# EAGLE library part BLUETOOTH (library amplib)
datasheet <https://www.mouser.se/datasheet/2/986/Datasheet_-_BT800_Module-1590704.pdf> Mouser No: 239-BT800 <https://www.mouser.se/ProductDetail/Laird-Connectivity/BT800?qs=sGAEpiMZZMsGelYiB%252BjhZkkHhaJQb1s%252BFpdjxxQrm%2FVzv2ACM1FW4w==>
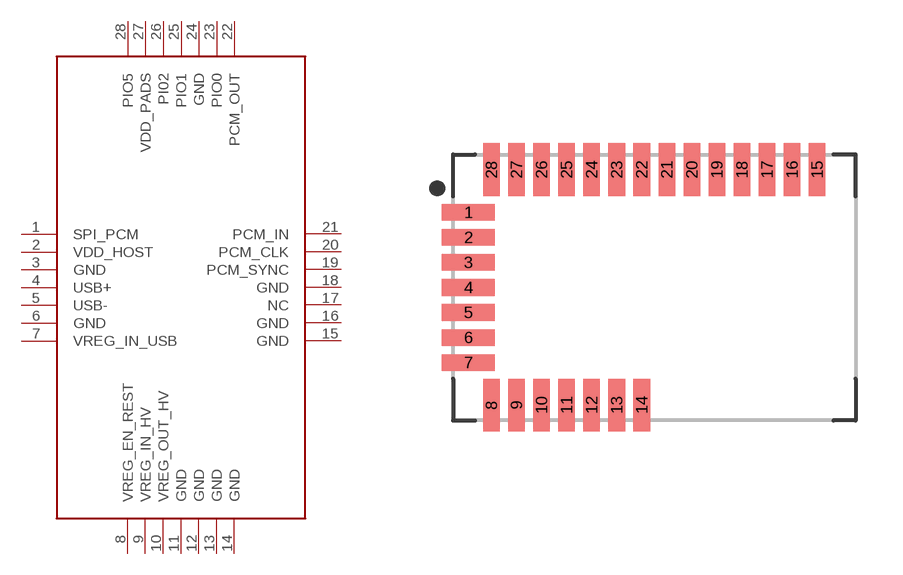
[diagram p4: symbol with the pads of QFN80P850X1285X175-42N; footprint QFN80P850X1285X175-42N]

Designator prefix -

## BLUETOOTH  [QFN80P850X1285X175-42N]
1  SPI_PCM
2  VDD_HOST
3  GND
4  USB+
5  USB-
6  GND
7  VREG_IN_USB
8  VREG_EN_REST
9  VREG_IN_HV
10  VREG_OUT_HV
11  GND
12  GND
13  GND
14  GND
15  GND
16  GND
17  NC
18  GND
19  PCM_SYNC
20  PCM_CLK
21  PCM_IN
22  PCM_OUT
23  PIO0
24  GND
25  PIO1
26  PI02
27  VDD_PADS
28  PIO5

## Footprint QFN80P850X1285X175-42N (pad centres in mm)
42-QFN, 0.80 mm pitch, 8.50 X 12.85 X 1.75 mm body 42-pin QFN package with 0.80 mm pitch with body size 8.50 X 12.85 X 1.75 mm
smd 1.687 x 0.532: 1 -5.937,2.4; 2 -5.937,1.6; 3 -5.937,0.8; 4 -5.937,0; 5 -5.937,-0.8; 6 -5.937,-1.6; 7 -5.937,-2.4
smd 0.532 x 1.687: 8 -5.2,-3.762; 9 -4.4,-3.762; 10 -3.6,-3.762; 11 -2.8,-3.762; 12 -2,-3.762; 13 -1.2,-3.762; 14 -0.4,-3.762; 15 5.2,3.762; 16 4.4,3.762; 17 3.6,3.762; 18 2.8,3.762; 19 2,3.762; 20 1.2,3.762; 21 0.4,3.762; 22 -0.4,3.762; 23 -1.2,3.762; 24 -2,3.762; 25 -2.8,3.762; 26 -3.6,3.762; 27 -4.4,3.762; 28 -5.2,3.762